# EAGLE library part ESPLORA_SHIELD (library User-Submitted)
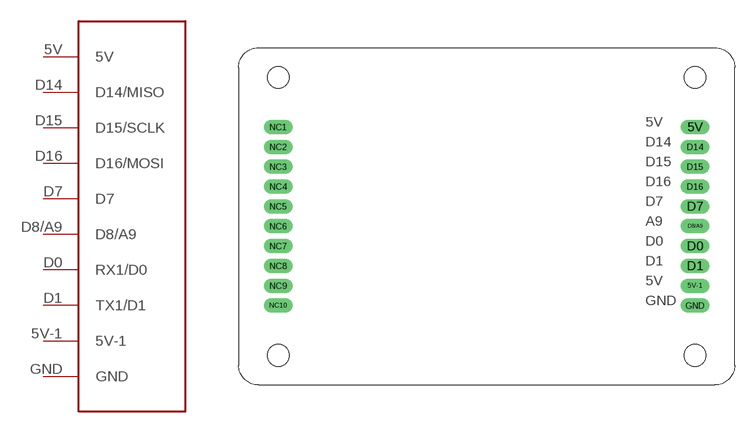
[diagram p4: symbol with the pads of ESPLORA_SHIELD; footprint ESPLORA_SHIELD]

Designator prefix -

## ESPLORA_SHIELD  [ESPLORA_SHIELD]
5V  5V
5V-1  5V-1
D0  RX1/D0
D1  TX1/D1
D7  D7
D8/A9  D8/A9
D14  D14/MISO
D15  D15/SCLK
D16  D16/MOSI
GND  GND

## Footprint ESPLORA_SHIELD (pad centres in mm)
drill 0.8 pad 1.88 long: 5V 53.34,22.86; 5V-1 53.34,2.54; D0 53.34,7.62; D1 53.34,5.08; D7 53.34,12.7; D8/A9 53.34,10.16; D14 53.34,20.32; D15 53.34,17.78; D16 53.34,15.24; GND 53.34,0; NC1 0,22.86; NC2 0,20.32; NC3 0,17.78; NC4 0,15.24; NC5 0,12.7; NC6 0,10.16; NC7 0,7.62; NC8 0,5.08; NC9 0,2.54; NC10 0,0
hole 2.8 at 0,29.21
hole 2.8 at 53.34,29.21
hole 2.8 at 53.34,-6.35
hole 2.8 at 0,-6.35